# Altium integrated library NXP Semiconductors Automotive MOSFETs.IntLib: 540 symbols (part 2 of 16)
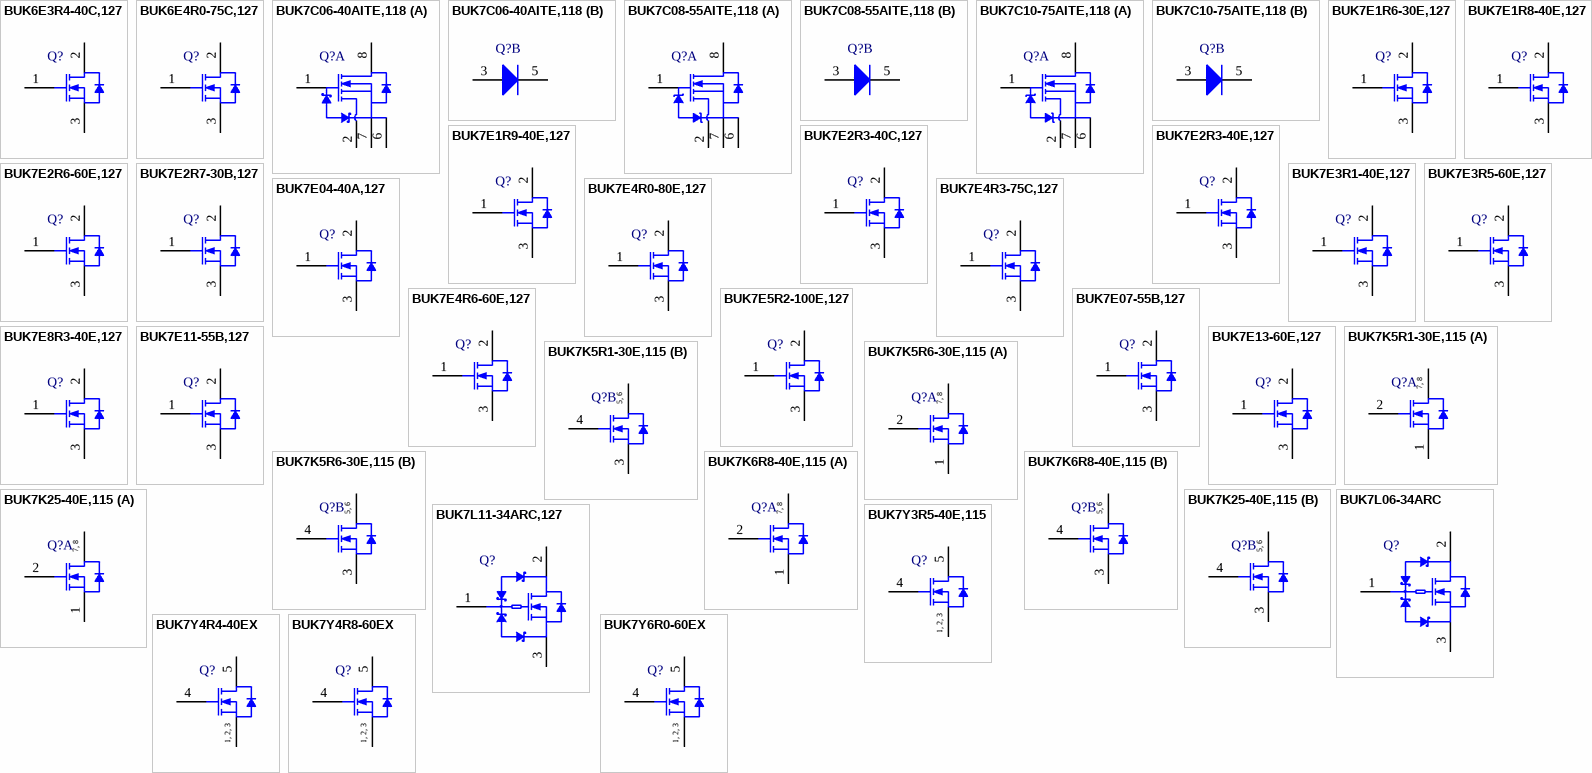
[diagram p15: symbols BUK6E3R4-40C,127 to BUK7Y6R0-60EX]

## BUK7C08-55AITE,118
designator Q?
N-Channel TrenchPLUS Standard Level FET, 55 V, 7-Pin SOT427, Tape and Reel; Manufacturer: NXP Semiconductors; PartNumber: BUK7C08-55AITE,118; Automotive Qualified: Y; Channel Type: N; IDM [max] (A): 522; Packing: Tape & Reel; Qr [typ] (nC): 200; VDS [max] (V): 55; VGSth [typ] (V): 3; DatasheetVersion: Rev. 02; PackageVersion: 12-10-16, 10/2012; PackageReference: SOT427; PackageDescription: 7-Pin Plastic Single-ended Surface Mounted Package, Body 10 x 9.6 mm, Pitch 1.27 mm; Supplier 1: Digi-Key; Supplier Part Number 1: BUK7C08-55AITE,118-ND; Supplier 2: Mouser; Supplier Part Number 2: 771-K7C08-55AITE118; Mounting Technology: Surface Mount; ComponentLink1Description: Manufacturer URL; ComponentLink1URL: http://www.nxp.com/; ComponentLink2Description: Datasheet; ComponentLink2URL: http://www.nxp.com/documents/data_sheet/BUK7C08-55AITE.pdf; ComponentLink3Description: Package Specification; ComponentLink3URL: http://www.nxp.com/documents/outline_drawing/sot427_po.pdf
footprint NXP-SOT427_N (D2-PAK, 7-Leads, Body 9.80x10.30mm, IPC Medium Density)
footprint NXP-SOT427_L (D2-PAK, 7-Leads, Body 9.80x10.30mm, IPC High Density)
footprint NXP-SOT427_M (D2-PAK, 7-Leads, Body 9.80x10.30mm, IPC Low Density)
part A pins: 1 G "gate", 2 ISENSE "sense current", 6 KS "Kelvin source", 7 S "source", 8 D "mounting base;connected to drain"
part B pins: 3 A "anode", 5 K "cathode"

## BUK7C10-75AITE,118
designator Q?
N-Channel TrenchPLUS Standard Level FET, 75 V, 7-Pin SOT427, Tape and Reel; Manufacturer: NXP Semiconductors; PartNumber: BUK7C10-75AITE,118; Automotive Qualified: Y; Channel Type: N; IDM [max] (A): 456; Packing: Tape & Reel; Qr [typ] (nC): 270; VDS [max] (V): 75; VGSth [typ] (V): 3; DatasheetVersion: Rev. 03; PackageVersion: 12-10-16, 10/2012; PackageReference: SOT427; PackageDescription: 7-Pin Plastic Single-ended Surface Mounted Package, Body 10 x 9.6 mm, Pitch 1.27 mm; Supplier 1: Digi-Key; Supplier Part Number 1: 568-9661-2-ND; Supplier 2: Digi-Key; Supplier Part Number 2: 568-9661-1-ND; Supplier 3: Digi-Key; Supplier Part Number 3: 568-9661-6-ND; Supplier 4: Mouser; Supplier Part Number 4: 771-K7C10-75AITE118; Mounting Technology: Surface Mount; ComponentLink1Description: Manufacturer URL; ComponentLink1URL: http://www.nxp.com/; ComponentLink2Description: Datasheet; ComponentLink2URL: http://www.nxp.com/documents/data_sheet/BUK7C10-75AITE.pdf; ComponentLink3Description: Package Specification; ComponentLink3URL: http://www.nxp.com/documents/outline_drawing/sot427_po.pdf
footprint NXP-SOT427_N (D2-PAK, 7-Leads, Body 9.80x10.30mm, IPC Medium Density)
footprint NXP-SOT427_L (D2-PAK, 7-Leads, Body 9.80x10.30mm, IPC High Density)
footprint NXP-SOT427_M (D2-PAK, 7-Leads, Body 9.80x10.30mm, IPC Low Density)
part A pins: 1 G "gate", 2 ISENSE "sense current", 6 KS "Kelvin source", 7 S "source", 8 D "mounting base;connected to drain"
part B pins: 3 A "anode", 5 K "cathode"

## BUK7E1R6-30E,127
designator Q?
N-Channel TrenchMOS Standard Level FET, 30 V, 120 A, 3-Pin SOT226, Rail; Manufacturer: NXP Semiconductors; PartNumber: BUK7E1R6-30E,127; Automotive Qualified: Y; Channel Type: N; ID [max] (A): 120; IDM [max] (A): 1408; Qr [typ] (nC): 93; VDS [max] (V): 30; VGSth [typ] (V): 3; PackageVersion: 09-08-25, 08/2009; PackageReference: SOT226; PackageDescription: 3-Pin Flange Mount, Vertical Straight Lead, Body 10 x 4.3 mm, Pitch 2.54 mm; Supplier 1: Digi-Key; Supplier Part Number 1: 568-9848-5-ND; Supplier 2: Mouser; Supplier Part Number 2: 771-BUK7E1R6-30E127; Packing: Rail; Mounting Technology: Through Hole; Code_JEDEC: TO-262; ComponentLink1Description: Manufacturer URL; ComponentLink1URL: http://www.nxp.com/; ComponentLink2Description: Datasheet; ComponentLink2URL: http://www.nxp.com/documents/data_sheet/BUK7E1R6-30E.pdf; ComponentLink3Description: Package Specification; ComponentLink3URL: http://www.nxp.com/documents/outline_drawing/sot226_po.pdf
footprint NXP-SOT226 (FM, 3-Leads, Body 10.3x4.5mm, Pitch 2.54mm)
pins: 1 G "gate", 2 D "drain", 3 S "source"

## BUK7E1R8-40E,127
designator Q?
N-Channel TrenchMOS Standard Level FET, 40 V, 120 A, 3-Pin SOT226, Rail; Manufacturer: NXP Semiconductors; PartNumber: BUK7E1R8-40E,127; Automotive Qualified: Y; Channel Type: N; ID [max] (A): 120; IDM [max] (A): 1278; Qr [typ] (nC): 94; VDS [max] (V): 40; VGSth [typ] (V): 3; PackageVersion: 09-08-25, 08/2009; PackageReference: SOT226; PackageDescription: 3-Pin Flange Mount, Vertical Straight Lead, Body 10 x 4.3 mm, Pitch 2.54 mm; Supplier 1: Digi-Key; Supplier Part Number 1: 568-9849-5-ND; Supplier 2: Mouser; Supplier Part Number 2: 771-BUK7E1R8-40E127; Packing: Rail; Mounting Technology: Through Hole; Code_JEDEC: TO-262; ComponentLink1Description: Manufacturer URL; ComponentLink1URL: http://www.nxp.com/; ComponentLink2Description: Datasheet; ComponentLink2URL: http://www.nxp.com/documents/data_sheet/BUK7E1R8-40E.pdf; ComponentLink3Description: Package Specification; ComponentLink3URL: http://www.nxp.com/documents/outline_drawing/sot226_po.pdf
footprint NXP-SOT226 (FM, 3-Leads, Body 10.3x4.5mm, Pitch 2.54mm)
pins: 1 G "gate", 2 D "drain", 3 S "source"

## BUK7E1R9-40E,127
designator Q?
N-Channel TrenchMOS Standard Level FET, 40 V, 120 A, 3-Pin SOT226, Rail; Manufacturer: NXP Semiconductors; PartNumber: BUK7E1R9-40E,127; Automotive Qualified: Y; Channel Type: N; ID [max] (A): 120; IDM [max] (A): 1198; Qr [typ] (nC): 62; VDS [max] (V): 40; VGSth [typ] (V): 3; PackageVersion: 09-08-25, 08/2009; PackageReference: SOT226; PackageDescription: 3-Pin Flange Mount, Vertical Straight Lead, Body 10 x 4.3 mm, Pitch 2.54 mm; Supplier 1: Digi-Key; Supplier Part Number 1: 568-10286-ND; Supplier 2: Mouser; Supplier Part Number 2: 771-BUK7E1R9-40E127; Packing: Rail; Mounting Technology: Through Hole; Code_JEDEC: TO-262; ComponentLink1Description: Manufacturer URL; ComponentLink1URL: http://www.nxp.com/; ComponentLink2Description: Datasheet; ComponentLink2URL: http://www.nxp.com/documents/data_sheet/BUK7E1R9-40E.pdf; ComponentLink3Description: Package Specification; ComponentLink3URL: http://www.nxp.com/documents/outline_drawing/sot226_po.pdf
footprint NXP-SOT226 (FM, 3-Leads, Body 10.3x4.5mm, Pitch 2.54mm)
pins: 1 G "gate", 2 D "drain", 3 S "source"

## BUK7E2R3-40C,127
designator Q?
N-Channel TrenchMOS Standard Level FET, 40 V, 3-Pin SOT226, Rail; Manufacturer: NXP Semiconductors; PartNumber: BUK7E2R3-40C,127; Automotive Qualified: Y; Channel Type: N; IDM [max] (A): 1104; Qr [typ] (nC): 57; VDS [max] (V): 40; VGSth [typ] (V): 3; DatasheetVersion: Rev. 03; PackageVersion: 09-08-25, 08/2009; PackageReference: SOT226; PackageDescription: 3-Pin Flange Mount, Vertical Straight Lead, Body 10 x 4.3 mm, Pitch 2.54 mm; Supplier 1: Digi-Key; Supplier Part Number 1: 568-6628-5-ND; Supplier 2: Mouser; Supplier Part Number 2: 771-BUK7E2R3-40C,127; Packing: Rail; Mounting Technology: Through Hole; Code_JEDEC: TO-262; ComponentLink1Description: Manufacturer URL; ComponentLink1URL: http://www.nxp.com/; ComponentLink2Description: Datasheet; ComponentLink2URL: http://www.nxp.com/documents/data_sheet/BUK7E2R3-40C.pdf; ComponentLink3Description: Package Specification; ComponentLink3URL: http://www.nxp.com/documents/outline_drawing/sot226_po.pdf
footprint NXP-SOT226 (FM, 3-Leads, Body 10.3x4.5mm, Pitch 2.54mm)
pins: 1 G "gate", 2 D "drain", 3 S "source"

## BUK7E2R3-40E,127
designator Q?
N-Channel TrenchMOS Standard Level FET, 40 V, 120 A, 3-Pin SOT226, Rail; Manufacturer: NXP Semiconductors; PartNumber: BUK7E2R3-40E,127; Automotive Qualified: Y; Channel Type: N; ID [max] (A): 120; IDM [max] (A): 1035; Qr [typ] (nC): 54; VDS [max] (V): 40; VGSth [typ] (V): 3; PackageVersion: 09-08-25, 08/2009; PackageReference: SOT226; PackageDescription: 3-Pin Flange Mount, Vertical Straight Lead, Body 10 x 4.3 mm, Pitch 2.54 mm; Supplier 1: Digi-Key; Supplier Part Number 1: 568-9850-5-ND; Supplier 2: Mouser; Supplier Part Number 2: 771-BUK7E2R3-40E127; Packing: Rail; Mounting Technology: Through Hole; Code_JEDEC: TO-262; ComponentLink1Description: Manufacturer URL; ComponentLink1URL: http://www.nxp.com/; ComponentLink2Description: Datasheet; ComponentLink2URL: http://www.nxp.com/documents/data_sheet/BUK7E2R3-40E.pdf; ComponentLink3Description: Package Specification; ComponentLink3URL: http://www.nxp.com/documents/outline_drawing/sot226_po.pdf
footprint NXP-SOT226 (FM, 3-Leads, Body 10.3x4.5mm, Pitch 2.54mm)
pins: 1 G "gate", 2 D "drain", 3 S "source"

## BUK7E2R6-60E,127
designator Q?
N-Channel TrenchMOS Standard Level FET, 60 V, 120 A, 3-Pin SOT226, Rail; Manufacturer: NXP Semiconductors; PartNumber: BUK7E2R6-60E,127; Automotive Qualified: Y; Channel Type: N; ID [max] (A): 120; IDM [max] (A): 995; Qr [typ] (nC): 89; VDS [max] (V): 60; VGSth [typ] (V): 3; PackageVersion: 09-08-25, 08/2009; PackageReference: SOT226; PackageDescription: 3-Pin Flange Mount, Vertical Straight Lead, Body 10 x 4.3 mm, Pitch 2.54 mm; Supplier 1: Digi-Key; Supplier Part Number 1: 568-9851-5-ND; Supplier 2: Mouser; Supplier Part Number 2: 771-BUK7E2R6-60E127; Packing: Rail; Mounting Technology: Through Hole; Code_JEDEC: TO-262; ComponentLink1Description: Manufacturer URL; ComponentLink1URL: http://www.nxp.com/; ComponentLink2Description: Datasheet; ComponentLink2URL: http://www.nxp.com/documents/data_sheet/BUK7E2R6-60E.pdf; ComponentLink3Description: Package Specification; ComponentLink3URL: http://www.nxp.com/documents/outline_drawing/sot226_po.pdf
footprint NXP-SOT226 (FM, 3-Leads, Body 10.3x4.5mm, Pitch 2.54mm)
pins: 1 G "gate", 2 D "drain", 3 S "source"

## BUK7E2R7-30B,127
designator Q?
N-Channel TrenchMOS Standard Level FET, 30 V, 3-Pin SOT226, Rail; Manufacturer: NXP Semiconductors; PartNumber: BUK7E2R7-30B,127; Automotive Qualified: Y; Channel Type: N; IDM [max] (A): 967; Qr [typ] (nC): 132; VDS [max] (V): 30; VGSth [typ] (V): 3; DatasheetVersion: Rev. 04; PackageVersion: 09-08-25, 08/2009; PackageReference: SOT226; PackageDescription: 3-Pin Flange Mount, Vertical Straight Lead, Body 10 x 4.3 mm, Pitch 2.54 mm; Supplier 1: Digi-Key; Supplier Part Number 1: 568-6629-5-ND; Supplier 2: Mouser; Supplier Part Number 2: 771-BUK7E2R7-30B127; Packing: Rail; Mounting Technology: Through Hole; Code_JEDEC: TO-262; ComponentLink1Description: Manufacturer URL; ComponentLink1URL: http://www.nxp.com/; ComponentLink2Description: Datasheet; ComponentLink2URL: http://www.nxp.com/documents/data_sheet/BUK7E2R7-30B.pdf; ComponentLink3Description: Package Specification; ComponentLink3URL: http://www.nxp.com/documents/outline_drawing/sot226_po.pdf
footprint NXP-SOT226 (FM, 3-Leads, Body 10.3x4.5mm, Pitch 2.54mm)
pins: 1 G "gate", 2 D "drain", 3 S "source"

## BUK7E3R1-40E,127
designator Q?
N-Channel TrenchMOS Standard Level FET, 40 V, 100 A, 3-Pin SOT226, Rail; Manufacturer: NXP Semiconductors; PartNumber: BUK7E3R1-40E,127; Automotive Qualified: Y; Channel Type: N; ID [max] (A): 100; IDM [max] (A): 798; Qr [typ] (nC): 44.6; VDS [max] (V): 40; VGSth [typ] (V): 3; PackageVersion: 09-08-25, 08/2009; PackageReference: SOT226; PackageDescription: 3-Pin Flange Mount, Vertical Straight Lead, Body 10 x 4.3 mm, Pitch 2.54 mm; Supplier 1: Digi-Key; Supplier Part Number 1: 568-9852-5-ND; Supplier 2: Mouser; Supplier Part Number 2: 771-BUK7E3R1-40E127; Packing: Rail; Mounting Technology: Through Hole; Code_JEDEC: TO-262; ComponentLink1Description: Manufacturer URL; ComponentLink1URL: http://www.nxp.com/; ComponentLink2Description: Datasheet; ComponentLink2URL: http://www.nxp.com/documents/data_sheet/BUK7E3R1-40E.pdf; ComponentLink3Description: Package Specification; ComponentLink3URL: http://www.nxp.com/documents/outline_drawing/sot226_po.pdf
footprint NXP-SOT226 (FM, 3-Leads, Body 10.3x4.5mm, Pitch 2.54mm)
pins: 1 G "gate", 2 D "drain", 3 S "source"

## BUK7E3R5-60E,127
designator Q?
N-Channel TrenchMOS Standard Level FET, 60 V, 120 A, 3-Pin SOT226, Rail; Manufacturer: NXP Semiconductors; PartNumber: BUK7E3R5-60E,127; Automotive Qualified: Y; Channel Type: N; ID [max] (A): 120; IDM [max] (A): 785; Qr [typ] (nC): 59.3; VDS [max] (V): 60; VGSth [typ] (V): 3; PackageVersion: 09-08-25, 08/2009; PackageReference: SOT226; PackageDescription: 3-Pin Flange Mount, Vertical Straight Lead, Body 10 x 4.3 mm, Pitch 2.54 mm; Supplier 1: Digi-Key; Supplier Part Number 1: 568-9853-5-ND; Supplier 2: Mouser; Supplier Part Number 2: 771-BUK7E3R5-60E127; Packing: Rail; Mounting Technology: Through Hole; Code_JEDEC: TO-262; ComponentLink1Description: Manufacturer URL; ComponentLink1URL: http://www.nxp.com/; ComponentLink2Description: Datasheet; ComponentLink2URL: http://www.nxp.com/documents/data_sheet/BUK7E3R5-60E.pdf; ComponentLink3Description: Package Specification; ComponentLink3URL: http://www.nxp.com/documents/outline_drawing/sot226_po.pdf
footprint NXP-SOT226 (FM, 3-Leads, Body 10.3x4.5mm, Pitch 2.54mm)
pins: 1 G "gate", 2 D "drain", 3 S "source"

## BUK7E04-40A,127
designator Q?
N-Channel TrenchMOS Standard Level FET, 40 V, 3-Pin SOT226, Rail; Manufacturer: NXP Semiconductors; PartNumber: BUK7E04-40A,127; Automotive Qualified: Y; Channel Type: N; IDM [max] (A): 794; Qr [typ] (nC): 224; VDS [max] (V): 40; VGSth [typ] (V): 3; DatasheetVersion: Rev. 03; PackageVersion: 09-08-25, 08/2009; PackageReference: SOT226; PackageDescription: 3-Pin Flange Mount, Vertical Straight Lead, Body 10 x 4.3 mm, Pitch 2.54 mm; Supplier 1: Digi-Key; Supplier Part Number 1: 568-9744-5-ND; Supplier 2: Mouser; Supplier Part Number 2: 771-BUK7E04-40A,127; Packing: Rail; Mounting Technology: Through Hole; Code_JEDEC: TO-262; ComponentLink1Description: Manufacturer URL; ComponentLink1URL: http://www.nxp.com/; ComponentLink2Description: Datasheet; ComponentLink2URL: http://www.nxp.com/documents/data_sheet/BUK7E04-40A.pdf; ComponentLink3Description: Package Specification; ComponentLink3URL: http://www.nxp.com/documents/outline_drawing/sot226_po.pdf
footprint NXP-SOT226 (FM, 3-Leads, Body 10.3x4.5mm, Pitch 2.54mm)
pins: 1 G "gate", 2 D "drain", 3 S "source"

## BUK7E4R0-80E,127
designator Q?
N-Channel TrenchMOS Standard Level FET, 80 V, 120 A, 3-Pin SOT226, Rail; Manufacturer: NXP Semiconductors; PartNumber: BUK7E4R0-80E,127; Automotive Qualified: Y; Channel Type: N; ID [max] (A): 120; IDM [max] (A): 758; Qr [typ] (nC): 121; VDS [max] (V): 80; VGSth [typ] (V): 3; PackageVersion: 09-08-25, 08/2009; PackageReference: SOT226; PackageDescription: 3-Pin Flange Mount, Vertical Straight Lead, Body 10 x 4.3 mm, Pitch 2.54 mm; Supplier 1: Digi-Key; Supplier Part Number 1: 568-9854-5-ND; Supplier 2: Mouser; Supplier Part Number 2: 771-BUK7E4R0-80E127; Packing: Rail; Mounting Technology: Through Hole; Code_JEDEC: TO-262; ComponentLink1Description: Manufacturer URL; ComponentLink1URL: http://www.nxp.com/; ComponentLink2Description: Datasheet; ComponentLink2URL: http://www.nxp.com/documents/data_sheet/BUK7E4R0-80E.pdf; ComponentLink3Description: Package Specification; ComponentLink3URL: http://www.nxp.com/documents/outline_drawing/sot226_po.pdf
footprint NXP-SOT226 (FM, 3-Leads, Body 10.3x4.5mm, Pitch 2.54mm)
pins: 1 G "gate", 2 D "drain", 3 S "source"

## BUK7E4R3-75C,127
designator Q?
N-Channel TrenchMOS Standard Level FET, 75 V, 100 A, 3-Pin SOT226, Rail; Manufacturer: NXP Semiconductors; PartNumber: BUK7E4R3-75C,127; Automotive Qualified: Y; Channel Type: N; IDM [max] (A): 769; Qr [typ] (nC): 155; VDS [max] (V): 75; VGSth [typ] (V): 3; DatasheetVersion: Rev. 02; PackageVersion: 09-08-25, 08/2009; PackageReference: SOT226; PackageDescription: 3-Pin Flange Mount, Vertical Straight Lead, Body 10 x 4.3 mm, Pitch 2.54 mm; Supplier 1: Digi-Key; Supplier Part Number 1: 568-6630-5-ND; Supplier 2: Mouser; Supplier Part Number 2: 771-BUK7E4R3-75C,127; Packing: Rail; Mounting Technology: Through Hole; Code_JEDEC: TO-262; ComponentLink1Description: Manufacturer URL; ComponentLink1URL: http://www.nxp.com/; ComponentLink2Description: Datasheet; ComponentLink2URL: http://www.nxp.com/documents/data_sheet/BUK7E4R3-75C.pdf; ComponentLink3Description: Package Specification; ComponentLink3URL: http://www.nxp.com/documents/outline_drawing/sot226_po.pdf
footprint NXP-SOT226 (FM, 3-Leads, Body 10.3x4.5mm, Pitch 2.54mm)
pins: 1 G "gate", 2 D "drain", 3 S "source"

## BUK7E4R6-60E,127
designator Q?
N-Channel TrenchMOS Standard Level FET, 60 V, 100 A, 3-Pin SOT226, Rail; Manufacturer: NXP Semiconductors; PartNumber: BUK7E4R6-60E,127; Automotive Qualified: Y; Channel Type: N; ID [max] (A): 100; IDM [max] (A): 613; Qr [typ] (nC): 49.6; VDS [max] (V): 60; VGSth [typ] (V): 3; PackageVersion: 09-08-25, 08/2009; PackageReference: SOT226; PackageDescription: 3-Pin Flange Mount, Vertical Straight Lead, Body 10 x 4.3 mm, Pitch 2.54 mm; Supplier 1: Digi-Key; Supplier Part Number 1: 568-9855-5-ND; Supplier 2: Mouser; Supplier Part Number 2: 771-BUK7E4R6-60E127; Packing: Rail; Mounting Technology: Through Hole; Code_JEDEC: TO-262; ComponentLink1Description: Manufacturer URL; ComponentLink1URL: http://www.nxp.com/; ComponentLink2Description: Datasheet; ComponentLink2URL: http://www.nxp.com/documents/data_sheet/BUK7E4R6-60E.pdf; ComponentLink3Description: Package Specification; ComponentLink3URL: http://www.nxp.com/documents/outline_drawing/sot226_po.pdf
footprint NXP-SOT226 (FM, 3-Leads, Body 10.3x4.5mm, Pitch 2.54mm)
pins: 1 G "gate", 2 D "drain", 3 S "source"

## BUK7E5R2-100E,127
designator Q?
N-Channel TrenchMOS Standard Level FET, 100 V, 120 A, 3-Pin SOT226, Rail; Manufacturer: NXP Semiconductors; PartNumber: BUK7E5R2-100E,127; Automotive Qualified: Y; Channel Type: N; ID [max] (A): 120; IDM [max] (A): 631; Qr [typ] (nC): 191; VDS [max] (V): 100; VGSth [typ] (V): 3; PackageVersion: 09-08-25, 08/2009; PackageReference: SOT226; PackageDescription: 3-Pin Flange Mount, Vertical Straight Lead, Body 10 x 4.3 mm, Pitch 2.54 mm; Supplier 1: Digi-Key; Supplier Part Number 1: 568-9856-5-ND; Supplier 2: Mouser; Supplier Part Number 2: 771-BUK7E5R2-100E127; Packing: Rail; Mounting Technology: Through Hole; Code_JEDEC: TO-262; ComponentLink1Description: Manufacturer URL; ComponentLink1URL: http://www.nxp.com/; ComponentLink2Description: Datasheet; ComponentLink2URL: http://www.nxp.com/documents/data_sheet/BUK7E5R2-100E.pdf; ComponentLink3Description: Package Specification; ComponentLink3URL: http://www.nxp.com/documents/outline_drawing/sot226_po.pdf
footprint NXP-SOT226 (FM, 3-Leads, Body 10.3x4.5mm, Pitch 2.54mm)
pins: 1 G "gate", 2 D "drain", 3 S "source"

## BUK7E07-55B,127
designator Q?
N-Channel TrenchMOS Standard Level FET, 55 V, 3-Pin SOT226, Rail; Manufacturer: NXP Semiconductors; PartNumber: BUK7E07-55B,127; Automotive Qualified: Y; Channel Type: N; IDM [max] (A): 478; Qr [typ] (nC): 60; VDS [max] (V): 55; VGSth [typ] (V): 3; DatasheetVersion: Rev. 01; PackageVersion: 09-08-25, 08/2009; PackageReference: SOT226; PackageDescription: 3-Pin Flange Mount, Vertical Straight Lead, Body 10 x 4.3 mm, Pitch 2.54 mm; Supplier 1: Digi-Key; Supplier Part Number 1: 568-5722-5-ND; Supplier 2: Mouser; Supplier Part Number 2: 771-BUK7E07-55B,127; Packing: Rail; Mounting Technology: Through Hole; Code_JEDEC: TO-262; ComponentLink1Description: Manufacturer URL; ComponentLink1URL: http://www.nxp.com/; ComponentLink2Description: Datasheet; ComponentLink2URL: http://www.nxp.com/documents/data_sheet/BUK7E07-55B.pdf; ComponentLink3Description: Package Specification; ComponentLink3URL: http://www.nxp.com/documents/outline_drawing/sot226_po.pdf
footprint NXP-SOT226 (FM, 3-Leads, Body 10.3x4.5mm, Pitch 2.54mm)
pins: 1 G "gate", 2 D "drain", 3 S "source"

## BUK7E8R3-40E,127
designator Q?
N-Channel TrenchMOS Standard Level FET, 40 V, 75 A, 3-Pin SOT226, Rail; Manufacturer: NXP Semiconductors; PartNumber: BUK7E8R3-40E,127; Automotive Qualified: Y; Channel Type: N; ID [max] (A): 75; IDM [max] (A): 331; Qr [typ] (nC): 10.7; VDS [max] (V): 40; VGSth [typ] (V): 3; PackageVersion: 09-08-25, 08/2009; PackageReference: SOT226; PackageDescription: 3-Pin Flange Mount, Vertical Straight Lead, Body 10 x 4.3 mm, Pitch 2.54 mm; Supplier 1: Digi-Key; Supplier Part Number 1: 568-9857-5-ND; Supplier 2: Mouser; Supplier Part Number 2: 771-BUK7E8R3-40E127; Packing: Rail; Mounting Technology: Through Hole; Code_JEDEC: TO-262; ComponentLink1Description: Manufacturer URL; ComponentLink1URL: http://www.nxp.com/; ComponentLink2Description: Datasheet; ComponentLink2URL: http://www.nxp.com/documents/data_sheet/BUK7E8R3-40E.pdf; ComponentLink3Description: Package Specification; ComponentLink3URL: http://www.nxp.com/documents/outline_drawing/sot226_po.pdf
footprint NXP-SOT226 (FM, 3-Leads, Body 10.3x4.5mm, Pitch 2.54mm)
pins: 1 G "gate", 2 D "drain", 3 S "source"

## BUK7E11-55B,127
designator Q?
N-Channel TrenchMOS Standard Level FET, 55 V, 3-Pin SOT226, Rail; Manufacturer: NXP Semiconductors; PartNumber: BUK7E11-55B,127; Automotive Qualified: Y; Channel Type: N; IDM [max] (A): 338; Qr [typ] (nC): 58; VDS [max] (V): 55; VGSth [typ] (V): 3; DatasheetVersion: Rev. 3; PackageVersion: 09-08-25, 08/2009; PackageReference: SOT226; PackageDescription: 3-Pin Flange Mount, Vertical Straight Lead, Body 10 x 4.3 mm, Pitch 2.54 mm; Supplier 1: Digi-Key; Supplier Part Number 1: 568-5723-5-ND; Supplier 2: Mouser; Supplier Part Number 2: 771-BUK7E11-55B127; Packing: Rail; Mounting Technology: Through Hole; Code_JEDEC: TO-262; ComponentLink1Description: Manufacturer URL; ComponentLink1URL: http://www.nxp.com/; ComponentLink2Description: Datasheet; ComponentLink2URL: http://www.nxp.com/documents/data_sheet/BUK7E11-55B.pdf; ComponentLink3Description: Package Specification; ComponentLink3URL: http://www.nxp.com/documents/outline_drawing/sot226_po.pdf
footprint NXP-SOT226 (FM, 3-Leads, Body 10.3x4.5mm, Pitch 2.54mm)
pins: 1 G "gate", 2 D "drain", 3 S "source"

## BUK7E13-60E,127
designator Q?
N-Channel TrenchMOS Standard Level FET, 60 V, 58 A, 3-Pin SOT226, Rail; Manufacturer: NXP Semiconductors; PartNumber: BUK7E13-60E,127; Automotive Qualified: Y; Channel Type: N; ID [max] (A): 58; IDM [max] (A): 234; Qr [typ] (nC): 18.1; VDS [max] (V): 60; VGSth [typ] (V): 3; PackageVersion: 09-08-25, 08/2009; PackageReference: SOT226; PackageDescription: 3-Pin Flange Mount, Vertical Straight Lead, Body 10 x 4.3 mm, Pitch 2.54 mm; Supplier 1: Digi-Key; Supplier Part Number 1: 568-9847-5-ND; Supplier 2: Mouser; Supplier Part Number 2: 771-BUK7E13-60E127; Packing: Rail; Mounting Technology: Through Hole; Code_JEDEC: TO-262; ComponentLink1Description: Manufacturer URL; ComponentLink1URL: http://www.nxp.com/; ComponentLink2Description: Datasheet; ComponentLink2URL: http://www.nxp.com/documents/data_sheet/BUK7E13-60E.pdf; ComponentLink3Description: Package Specification; ComponentLink3URL: http://www.nxp.com/documents/outline_drawing/sot226_po.pdf
footprint NXP-SOT226 (FM, 3-Leads, Body 10.3x4.5mm, Pitch 2.54mm)
pins: 1 G "gate", 2 D "drain", 3 S "source"

## BUK7K5R1-30E,115
designator Q?
Dual N-Channel Standard Level MOSFET, 30 V, 40 A, 8-Pin SOT1205, Reel; Manufacturer: NXP Semiconductors; PartNumber: BUK7K5R1-30E,115; Automotive Qualified: Y; Channel Type: N; ID [max] (A): 40; IDM [max] (A): 340; Qr [typ] (nC): 20.7; VDS [max] (V): 30; VGSth [typ] (V): 3; PackageVersion: 14-08-21, 08/2014; PackageReference: SOT1205; PackageDescription: 8-Pin Plastic Single-ended Surface Mounted Package, Body 5.125 x 4.575 mm, Pitch 1.27 mm; Supplier 1: Digi-Key; Supplier Part Number 1: 568-9896-2-ND; Supplier 2: Digi-Key; Supplier Part Number 2: 568-9896-1-ND; Supplier 3: Digi-Key; Supplier Part Number 3: 568-9896-6-ND; Supplier 4: Mouser; Supplier Part Number 4: 771-BUK7K5R1-30E115; Packing: Reel; Mounting Technology: Surface Mount; ComponentLink1Description: Manufacturer URL; ComponentLink1URL: http://www.nxp.com/; ComponentLink2Description: Datasheet; ComponentLink2URL: http://www.nxp.com/documents/data_sheet/BUK7K5R1-30E.pdf; ComponentLink3Description: Package Specification; ComponentLink3URL: http://www.nxp.com/documents/outline_drawing/sot1205_po.pdf
footprint NXP-SOT1205_N (DPAK, 8-Leads, Body 5.3x4.7mm, Pitch 1.27mm, IPC Medium Density)
footprint NXP-SOT1205_L (DPAK, 8-Leads, Body 5.3x4.7mm, Pitch 1.27mm, IPC High Density)
footprint NXP-SOT1205_M (DPAK, 8-Leads, Body 5.3x4.7mm, Pitch 1.27mm, IPC Low Density)
part A pins: 1 S1 "source1", 2 G1 "gate1", 7 D1 "drain1", 8 D1 "drain1"
part B pins: 3 S2 "source2", 4 G2 "gate2", 5 D2 "drain2", 6 D2 "drain2"
part A text: 7, 8
part B text: 5, 6

## BUK7K5R6-30E,115
designator Q?
Dual N-Channel Standard Level MOSFET, 30 V, 40 A, 8-Pin SOT1205, Reel; Manufacturer: NXP Semiconductors; PartNumber: BUK7K5R6-30E,115; Automotive Qualified: Y; Channel Type: N; ID [max] (A): 40; IDM [max] (A): 314; Qr [typ] (nC): 20.7; VDS [max] (V): 30; VGSth [typ] (V): 3; PackageVersion: 14-08-21, 08/2014; PackageReference: SOT1205; PackageDescription: 8-Pin Plastic Single-ended Surface Mounted Package, Body 5.125 x 4.575 mm, Pitch 1.27 mm; Supplier 1: Digi-Key; Supplier Part Number 1: 568-9897-2-ND; Supplier 2: Digi-Key; Supplier Part Number 2: 568-9897-1-ND; Supplier 3: Digi-Key; Supplier Part Number 3: 568-9897-6-ND; Supplier 4: Mouser; Supplier Part Number 4: 771-BUK7K5R6-30E115; Packing: Reel; Mounting Technology: Surface Mount; ComponentLink1Description: Manufacturer URL; ComponentLink1URL: http://www.nxp.com/; ComponentLink2Description: Datasheet; ComponentLink2URL: http://www.nxp.com/documents/data_sheet/BUK7K5R6-30E.pdf; ComponentLink3Description: Package Specification; ComponentLink3URL: http://www.nxp.com/documents/outline_drawing/sot1205_po.pdf
footprint NXP-SOT1205_N (DPAK, 8-Leads, Body 5.3x4.7mm, Pitch 1.27mm, IPC Medium Density)
footprint NXP-SOT1205_L (DPAK, 8-Leads, Body 5.3x4.7mm, Pitch 1.27mm, IPC High Density)
footprint NXP-SOT1205_M (DPAK, 8-Leads, Body 5.3x4.7mm, Pitch 1.27mm, IPC Low Density)
part A pins: 1 S1 "source1", 2 G1 "gate1", 7 D1 "drain1", 8 D1 "drain1"
part B pins: 3 S2 "source2", 4 G2 "gate2", 5 D2 "drain2", 6 D2 "drain2"
part A text: 7, 8
part B text: 5, 6

## BUK7K6R8-40E,115
designator Q?
Dual N-Channel Standard Level MOSFET, 40 V, 40 A, 8-Pin SOT1205, Reel; Manufacturer: NXP Semiconductors; PartNumber: BUK7K6R8-40E,115; Automotive Qualified: Y; Channel Type: N; ID [max] (A): 40; IDM [max] (A): 276; Qr [typ] (nC): 11.3; VGSth [typ] (V): 3; PackageVersion: 14-08-21, 08/2014; PackageReference: SOT1205; PackageDescription: 8-Pin Plastic Single-ended Surface Mounted Package, Body 5.125 x 4.575 mm, Pitch 1.27 mm; Supplier 1: Digi-Key; Supplier Part Number 1: 568-9898-2-ND; Supplier 2: Digi-Key; Supplier Part Number 2: 568-9898-1-ND; Supplier 3: Digi-Key; Supplier Part Number 3: 568-9898-6-ND; Supplier 4: Mouser; Supplier Part Number 4: 771-BUK7K6R8-40E115; Packing: Reel; VDS [max] (V): 40; Mounting Technology: Surface Mount; ComponentLink1Description: Manufacturer URL; ComponentLink1URL: http://www.nxp.com/; ComponentLink2Description: Datasheet; ComponentLink2URL: http://www.nxp.com/documents/data_sheet/BUK7K6R8-40E.pdf; ComponentLink3Description: Package Specification; ComponentLink3URL: http://www.nxp.com/documents/outline_drawing/sot1205_po.pdf
footprint NXP-SOT1205_N (DPAK, 8-Leads, Body 5.3x4.7mm, Pitch 1.27mm, IPC Medium Density)
footprint NXP-SOT1205_L (DPAK, 8-Leads, Body 5.3x4.7mm, Pitch 1.27mm, IPC High Density)
footprint NXP-SOT1205_M (DPAK, 8-Leads, Body 5.3x4.7mm, Pitch 1.27mm, IPC Low Density)
part A pins: 1 S1 "source1", 2 G1 "gate1", 7 D1 "drain1", 8 D1 "drain1"
part B pins: 3 S2 "source2", 4 G2 "gate2", 5 D2 "drain2", 6 D2 "drain2"
part A text: 7, 8
part B text: 5, 6

## BUK7K25-40E,115
designator Q?
Dual N-Channel TrenchMOS Standard Level FET, 40 V, 27 A, 8-Pin SOT1205, Reel; Manufacturer: NXP Semiconductors; PartNumber: BUK7K25-40E,115; Automotive Qualified: Y; Channel Type: N; ID [max] (A): 27; IDM [max] (A): 107; Qr [typ] (nC): 6.7; VDS [max] (V): 40; VGSth [typ] (V): 3; PackageVersion: 14-08-21, 08/2014; PackageReference: SOT1205; PackageDescription: 8-Pin Plastic Single-ended Surface Mounted Package, Body 5.125 x 4.575 mm, Pitch 1.27 mm; Supplier 1: Digi-Key; Supplier Part Number 1: 568-9895-2-ND; Supplier 2: Digi-Key; Supplier Part Number 2: 568-9895-1-ND; Supplier 3: Digi-Key; Supplier Part Number 3: 568-9895-6-ND; Supplier 4: Mouser; Supplier Part Number 4: 771-BUK7K25-40E115; Packing: Reel; Mounting Technology: Surface Mount; ComponentLink1Description: Manufacturer URL; ComponentLink1URL: http://www.nxp.com/; ComponentLink2Description: Datasheet; ComponentLink2URL: http://www.nxp.com/documents/data_sheet/BUK7K25-40E.pdf; ComponentLink3Description: Package Specification; ComponentLink3URL: http://www.nxp.com/documents/outline_drawing/sot1205_po.pdf
footprint NXP-SOT1205_N (DPAK, 8-Leads, Body 5.3x4.7mm, Pitch 1.27mm, IPC Medium Density)
footprint NXP-SOT1205_L (DPAK, 8-Leads, Body 5.3x4.7mm, Pitch 1.27mm, IPC High Density)
footprint NXP-SOT1205_M (DPAK, 8-Leads, Body 5.3x4.7mm, Pitch 1.27mm, IPC Low Density)
part A pins: 1 S1 "source1", 2 G1 "gate1", 7 D1 "drain1", 8 D1 "drain1"
part B pins: 3 S2 "source2", 4 G2 "gate2", 5 D2 "drain2", 6 D2 "drain2"
part A text: 7, 8
part B text: 5, 6

## BUK7L06-34ARC
designator Q?
N-Channel TrenchPLUS Standard Level FET, 34 V, 3-Pin SOT78C; Manufacturer: NXP Semiconductors; PartNumber: BUK7L06-34ARC; Automotive Qualified: Y; Channel Type: N; IDM [max] (A): 590; Qr [typ] (nC): 44; VDS [max] (V): 34; VGSth [typ] (V): 3; DatasheetVersion: Rev. 05; PackageVersion: 12-11-28, 11/2012; PackageReference: SOT78C; PackageDescription: 3-Pin Flange Mount, Vertical Straight Lead, Body 10.2 x 4.445 mm, Pitch 2.54 mm; Supplier 1: Mouser; Supplier Part Number 1: 771-BUK7L06-34ARC; Mounting Technology: Through Hole; ComponentLink1Description: Manufacturer URL; ComponentLink1URL: http://www.nxp.com/; ComponentLink2Description: Datasheet; ComponentLink2URL: http://www.nxp.com/documents/data_sheet/BUK7L06-34ARC.pdf; ComponentLink3Description: Package Specification; ComponentLink3URL: http://www.nxp.com/documents/outline_drawing/sot078c_po.pdf
footprint NXP-SOT78C (FM, 3-Leads, Body 10.4x4.6mm, Pitch 2.54mm)
pins: 1 G, 2 D, 3 S

## BUK7L11-34ARC,127
designator Q?
N-Channel TrenchPLUS Standard Level FET, 34 V, 3-Pin SOT78C, Rail; Manufacturer: NXP Semiconductors; PartNumber: BUK7L11-34ARC,127; Automotive Qualified: Y; Channel Type: N; IDM [max] (A): 358; Qr [typ] (nC): 28; VDS [max] (V): 34; VGSth [typ] (V): 3; DatasheetVersion: Rev. 05; PackageVersion: 12-11-28, 11/2012; PackageReference: SOT78C; PackageDescription: 3-Pin Flange Mount, Vertical Straight Lead, Body 10.2 x 4.445 mm, Pitch 2.54 mm; Supplier 1: Digi-Key; Supplier Part Number 1: BUK7L11-34ARC,127-ND; Supplier 2: Mouser; Supplier Part Number 2: N/A; Packing: Rail; Mounting Technology: Through Hole; ComponentLink1Description: Manufacturer URL; ComponentLink1URL: http://www.nxp.com/; ComponentLink2Description: Datasheet; ComponentLink2URL: http://www.nxp.com/documents/data_sheet/BUK7L11-34ARC.pdf; ComponentLink3Description: Package Specification; ComponentLink3URL: http://www.nxp.com/documents/outline_drawing/sot078c_po.pdf
footprint NXP-SOT78C (FM, 3-Leads, Body 10.4x4.6mm, Pitch 2.54mm)
pins: 1 G, 2 D, 3 S

## BUK7Y3R5-40E,115
designator Q?
N-Channel Standard Level MOSFET, 40 V, 100 A, 5-Pin SOT669, Tape and Reel; Manufacturer: NXP Semiconductors; PartNumber: BUK7Y3R5-40E,115; Automotive Qualified: Y; Channel Type: N; ID [max] (A): 100; IDM [max] (A): 622; Packing: Tape & Reel; Qr [typ] (nC): 25.4; VDS [max] (V): 40; VGSth [typ] (V): 3; PackageVersion: 13-02-27, 02/2013; PackageReference: SOT669; PackageDescription: 4-Pin Plastic Single-ended Surface Mounted Package, Body 4.9 x 3.95 mm, Pitch 1.27 mm; Supplier 1: Digi-Key; Supplier Part Number 1: 568-11418-2-ND; Supplier 2: Digi-Key; Supplier Part Number 2: 568-11418-1-ND; Supplier 3: Digi-Key; Supplier Part Number 3: 568-11418-6-ND; Supplier 4: Newark; Supplier Part Number 4: 45W7223; Supplier 5: Mouser; Supplier Part Number 5: 771-BUK7Y3R5-40E115; Mounting Technology: Surface Mount; Code_JEDEC: MO-235; ComponentLink1Description: Manufacturer URL; ComponentLink1URL: http://www.nxp.com/; ComponentLink2Description: Datasheet; ComponentLink2URL: http://www.nxp.com/documents/data_sheet/BUK7Y3R5-40E.pdf; ComponentLink3Description: Package Specification; ComponentLink3URL: http://www.nxp.com/documents/outline_drawing/sot669_po.pdf
footprint NXP-SOT669_N (DPAK, 4-Leads, Body 5x4.1mm, Pitch 1.27mm, IPC Medium Density)
footprint NXP-SOT669_L (DPAK, 4-Leads, Body 5x4.1mm, Pitch 1.27mm, IPC High Density)
footprint NXP-SOT669_M (DPAK, 4-Leads, Body 5x4.1mm, Pitch 1.27mm, IPC Low Density)
pins: 1 S "source", 2 S "source", 3 S "source", 4 G "gate", 5 D "mounting base; connected to drain"
text: 1, 2, 3

## BUK7Y4R4-40EX
designator Q?
N-Channel Standard Level MOSFET, 40 V, 100 A, 5-Pin SOT669, Tape and Reel; Manufacturer: NXP Semiconductors; PartNumber: BUK7Y4R4-40EX; Automotive Qualified: Y; Channel Type: N; ID [max] (A): 100; IDM [max] (A): 521; Packing: Tape & Reel; Qr [typ] (nC): 18; VDS [max] (V): 40; VGSth [typ] (V): 3; PackageVersion: 13-02-27, 02/2013; PackageReference: SOT669; PackageDescription: 4-Pin Plastic Single-ended Surface Mounted Package, Body 4.9 x 3.95 mm, Pitch 1.27 mm; Supplier 1: Digi-Key; Supplier Part Number 1: 568-10268-2-ND; Supplier 2: Digi-Key; Supplier Part Number 2: 568-10268-1-ND; Supplier 3: Digi-Key; Supplier Part Number 3: 568-10268-6-ND; Supplier 4: Mouser; Supplier Part Number 4: 771-BUK7Y4R4-40EX; Mounting Technology: Surface Mount; Code_JEDEC: MO-235; ComponentLink1Description: Manufacturer URL; ComponentLink1URL: http://www.nxp.com/; ComponentLink2Description: Datasheet; ComponentLink2URL: http://www.nxp.com/documents/data_sheet/BUK7Y4R4-40E.pdf; ComponentLink3Description: Package Specification; ComponentLink3URL: http://www.nxp.com/documents/outline_drawing/sot669_po.pdf
footprint NXP-SOT669_N (DPAK, 4-Leads, Body 5x4.1mm, Pitch 1.27mm, IPC Medium Density)
footprint NXP-SOT669_L (DPAK, 4-Leads, Body 5x4.1mm, Pitch 1.27mm, IPC High Density)
footprint NXP-SOT669_M (DPAK, 4-Leads, Body 5x4.1mm, Pitch 1.27mm, IPC Low Density)
pins: 1 S "source", 2 S "source", 3 S "source", 4 G "gate", 5 D "mounting base; connected to drain"
text: 1, 2, 3

## BUK7Y4R8-60EX
designator Q?
N-Channel Standard Level MOSFET, 60 V, 100 A, 5-Pin SOT669, Tape and Reel; Manufacturer: NXP Semiconductors; PartNumber: BUK7Y4R8-60EX; Automotive Qualified: Y; Channel Type: N; ID [max] (A): 100; IDM [max] (A): 595; Packing: Tape & Reel; Qr [typ] (nC): 38.9; VDS [max] (V): 60; VGSth [typ] (V): 3; PackageVersion: 13-02-27, 02/2013; PackageReference: SOT669; PackageDescription: 4-Pin Plastic Single-ended Surface Mounted Package, Body 4.9 x 3.95 mm, Pitch 1.27 mm; Supplier 1: Digi-Key; Supplier Part Number 1: 568-10967-2-ND; Supplier 2: Digi-Key; Supplier Part Number 2: 568-10967-1-ND; Supplier 3: Digi-Key; Supplier Part Number 3: 568-10967-6-ND; Supplier 4: Mouser; Supplier Part Number 4: 771-BUK7Y4R8-60EX; Mounting Technology: Surface Mount; Code_JEDEC: MO-235; ComponentLink1Description: Manufacturer URL; ComponentLink1URL: http://www.nxp.com/; ComponentLink2Description: Datasheet; ComponentLink2URL: http://www.nxp.com/documents/data_sheet/BUK7Y4R8-60E.pdf; ComponentLink3Description: Package Specification; ComponentLink3URL: http://www.nxp.com/documents/outline_drawing/sot669_po.pdf
footprint NXP-SOT669_N (DPAK, 4-Leads, Body 5x4.1mm, Pitch 1.27mm, IPC Medium Density)
footprint NXP-SOT669_L (DPAK, 4-Leads, Body 5x4.1mm, Pitch 1.27mm, IPC High Density)
footprint NXP-SOT669_M (DPAK, 4-Leads, Body 5x4.1mm, Pitch 1.27mm, IPC Low Density)
pins: 1 S "source", 2 S "source", 3 S "source", 4 G "gate", 5 D "mounting base; connected to drain"
text: 1, 2, 3

## BUK7Y6R0-60EX
designator Q?
N-Channel Standard Level MOSFET, 60 V, 100 A, 5-Pin SOT669, Tape and Reel; Manufacturer: NXP Semiconductors; PartNumber: BUK7Y6R0-60EX; Automotive Qualified: Y; Channel Type: N; ID [max] (A): 100; IDM [max] (A): 482; Packing: Tape & Reel; Qr [typ] (nC): 29; VDS [max] (V): 60; VGSth [typ] (V): 3; PackageVersion: 13-02-27, 02/2013; PackageReference: SOT669; PackageDescription: 4-Pin Plastic Single-ended Surface Mounted Package, Body 4.9 x 3.95 mm, Pitch 1.27 mm; Supplier 1: Digi-Key; Supplier Part Number 1: 568-10271-2-ND; Supplier 2: Digi-Key; Supplier Part Number 2: 568-10271-1-ND; Supplier 3: Digi-Key; Supplier Part Number 3: 568-10271-6-ND; Supplier 4: Mouser; Supplier Part Number 4: 771-BUK7Y6R0-60EX; Mounting Technology: Surface Mount; Code_JEDEC: MO-235; ComponentLink1Description: Manufacturer URL; ComponentLink1URL: http://www.nxp.com/; ComponentLink2Description: Datasheet; ComponentLink2URL: http://www.nxp.com/documents/data_sheet/BUK7Y6R0-60E.pdf; ComponentLink3Description: Package Specification; ComponentLink3URL: http://www.nxp.com/documents/outline_drawing/sot669_po.pdf
footprint NXP-SOT669_N (DPAK, 4-Leads, Body 5x4.1mm, Pitch 1.27mm, IPC Medium Density)
footprint NXP-SOT669_L (DPAK, 4-Leads, Body 5x4.1mm, Pitch 1.27mm, IPC High Density)
footprint NXP-SOT669_M (DPAK, 4-Leads, Body 5x4.1mm, Pitch 1.27mm, IPC Low Density)
pins: 1 S "source", 2 S "source", 3 S "source", 4 G "gate", 5 D "mounting base; connected to drain"
text: 1, 2, 3

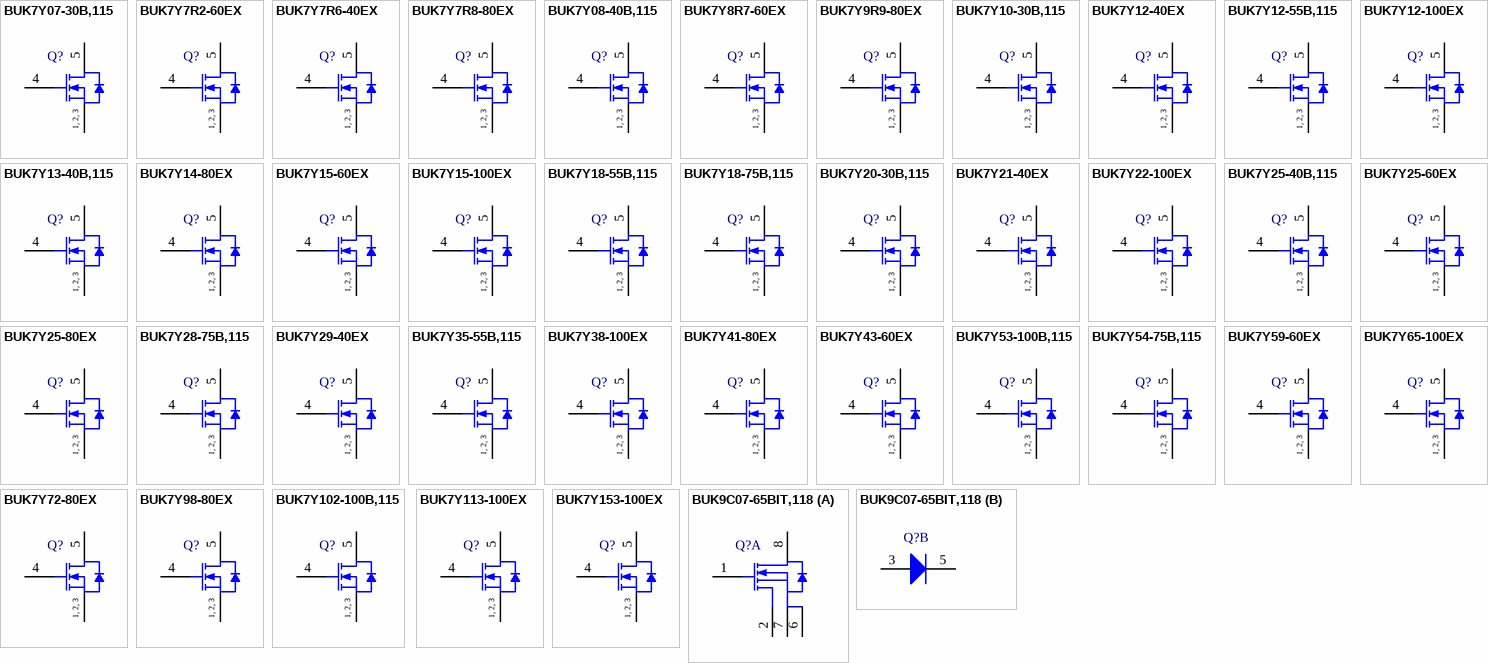
[diagram p2: symbols BUK7Y07-30B,115 to BUK9C07-65BIT,118]

## BUK7Y07-30B,115
designator Q?
N-Channel TrenchMOS Standard Level FET, 30 V, 75 A, 5-Pin SOT669, Tape and Reel; Manufacturer: NXP Semiconductors; PartNumber: BUK7Y07-30B,115; Automotive Qualified: Y; Channel Type: N; ID [max] (A): 75; IDM [max] (A): 356; Packing: Tape & Reel; Qr [typ] (nC): 53; VDS [max] (V): 30; VGSth [typ] (V): 3; DatasheetVersion: Rev. 03; PackageVersion: 13-02-27, 02/2013; PackageReference: SOT669; PackageDescription: 4-Pin Plastic Single-ended Surface Mounted Package, Body 4.9 x 3.95 mm, Pitch 1.27 mm; Supplier 1: Digi-Key; Supplier Part Number 1: 568-5510-2-ND; Supplier 2: Digi-Key; Supplier Part Number 2: 568-5510-1-ND; Supplier 3: Digi-Key; Supplier Part Number 3: 568-5510-6-ND; Supplier 4: Mouser; Supplier Part Number 4: 771-BUK7Y07-30B115; Mounting Technology: Surface Mount; Code_JEDEC: MO-235; ComponentLink1Description: Manufacturer URL; ComponentLink1URL: http://www.nxp.com/; ComponentLink2Description: Datasheet; ComponentLink2URL: http://www.nxp.com/documents/data_sheet/BUK7Y07-30B.pdf; ComponentLink3Description: Package Specification; ComponentLink3URL: http://www.nxp.com/documents/outline_drawing/sot669_po.pdf
footprint NXP-SOT669_N (DPAK, 4-Leads, Body 5x4.1mm, Pitch 1.27mm, IPC Medium Density)
footprint NXP-SOT669_L (DPAK, 4-Leads, Body 5x4.1mm, Pitch 1.27mm, IPC High Density)
footprint NXP-SOT669_M (DPAK, 4-Leads, Body 5x4.1mm, Pitch 1.27mm, IPC Low Density)
pins: 1 S "source", 2 S "source", 3 S "source", 4 G "gate", 5 D "mounting base; connected to drain"
text: 1, 2, 3

## BUK7Y7R2-60EX
designator Q?
N-Channel Standard Level MOSFET, 60 V, 100 A, 5-Pin SOT669, Tape and Reel; Manufacturer: NXP Semiconductors; PartNumber: BUK7Y7R2-60EX; Automotive Qualified: Y; Channel Type: N; ID [max] (A): 100; IDM [max] (A): 407; Packing: Tape & Reel; Qr [typ] (nC): 25.6; VDS [max] (V): 60; VGSth [typ] (V): 3; PackageVersion: 13-02-27, 02/2013; PackageReference: SOT669; PackageDescription: 4-Pin Plastic Single-ended Surface Mounted Package, Body 4.9 x 3.95 mm, Pitch 1.27 mm; Supplier 1: Digi-Key; Supplier Part Number 1: 568-11419-2-ND; Supplier 2: Digi-Key; Supplier Part Number 2: 568-11419-1-ND; Supplier 3: Digi-Key; Supplier Part Number 3: 568-11419-6-ND; Supplier 4: Mouser; Supplier Part Number 4: 771-BUK7Y7R260EX; Mounting Technology: Surface Mount; Code_JEDEC: MO-235; ComponentLink1Description: Manufacturer URL; ComponentLink1URL: http://www.nxp.com/; ComponentLink2Description: Datasheet; ComponentLink2URL: http://www.nxp.com/documents/data_sheet/BUK7Y7R2-60E.pdf; ComponentLink3Description: Package Specification; ComponentLink3URL: http://www.nxp.com/documents/outline_drawing/sot669_po.pdf
footprint NXP-SOT669_N (DPAK, 4-Leads, Body 5x4.1mm, Pitch 1.27mm, IPC Medium Density)
footprint NXP-SOT669_L (DPAK, 4-Leads, Body 5x4.1mm, Pitch 1.27mm, IPC High Density)
footprint NXP-SOT669_M (DPAK, 4-Leads, Body 5x4.1mm, Pitch 1.27mm, IPC Low Density)
pins: 1 S "source", 2 S "source", 3 S "source", 4 G "gate", 5 D "mounting base; connected to drain"
text: 1, 2, 3

## BUK7Y7R6-40EX
designator Q?
N-Channel Standard Level MOSFET, 40 V, 79 A, 5-Pin SOT669, Tape and Reel; Manufacturer: NXP Semiconductors; PartNumber: BUK7Y7R6-40EX; Automotive Qualified: Y; Channel Type: N; ID [max] (A): 79; IDM [max] (A): 317; Packing: Tape & Reel; Qr [typ] (nC): 9; VDS [max] (V): 40; VGSth [typ] (V): 3; PackageVersion: 13-02-27, 02/2013; PackageReference: SOT669; PackageDescription: 4-Pin Plastic Single-ended Surface Mounted Package, Body 4.9 x 3.95 mm, Pitch 1.27 mm; Supplier 1: Digi-Key; Supplier Part Number 1: 568-10272-2-ND; Supplier 2: Digi-Key; Supplier Part Number 2: 568-10272-1-ND; Supplier 3: Digi-Key; Supplier Part Number 3: 568-10272-6-ND; Supplier 4: Newark; Supplier Part Number 4: 55W6027; Supplier 5: Mouser; Supplier Part Number 5: 771-BUK7Y7R6-40EX; Mounting Technology: Surface Mount; Code_JEDEC: MO-235; ComponentLink1Description: Manufacturer URL; ComponentLink1URL: http://www.nxp.com/; ComponentLink2Description: Datasheet; ComponentLink2URL: http://www.nxp.com/documents/data_sheet/BUK7Y7R6-40E.pdf; ComponentLink3Description: Package Specification; ComponentLink3URL: http://www.nxp.com/documents/outline_drawing/sot669_po.pdf
footprint NXP-SOT669_N (DPAK, 4-Leads, Body 5x4.1mm, Pitch 1.27mm, IPC Medium Density)
footprint NXP-SOT669_L (DPAK, 4-Leads, Body 5x4.1mm, Pitch 1.27mm, IPC High Density)
footprint NXP-SOT669_M (DPAK, 4-Leads, Body 5x4.1mm, Pitch 1.27mm, IPC Low Density)
pins: 1 S "source", 2 S "source", 3 S "source", 4 G "gate", 5 D "mounting base; connected to drain"
text: 1, 2, 3

## BUK7Y7R8-80EX
designator Q?
N-Channel Standard Level MOSFET, 80 V, 100 A, 5-Pin SOT669, Tape and Reel; Manufacturer: NXP Semiconductors; PartNumber: BUK7Y7R8-80EX; Automotive Qualified: Y; Channel Type: N; ID [max] (A): 100; IDM [max] (A): 441; Packing: Tape & Reel; Qr [typ] (nC): 56.3; VDS [max] (V): 80; VGSth [typ] (V): 3; PackageVersion: 13-02-27, 02/2013; PackageReference: SOT669; PackageDescription: 4-Pin Plastic Single-ended Surface Mounted Package, Body 4.9 x 3.95 mm, Pitch 1.27 mm; Supplier 1: Digi-Key; Supplier Part Number 1: 568-10968-2-ND; Supplier 2: Digi-Key; Supplier Part Number 2: 568-10968-1-ND; Supplier 3: Digi-Key; Supplier Part Number 3: 568-10968-6-ND; Supplier 4: Mouser; Supplier Part Number 4: 771-BUK7Y7R8-80EX; Mounting Technology: Surface Mount; Code_JEDEC: MO-235; ComponentLink1Description: Manufacturer URL; ComponentLink1URL: http://www.nxp.com/; ComponentLink2Description: Datasheet; ComponentLink2URL: http://www.nxp.com/documents/data_sheet/BUK7Y7R8-80E.pdf; ComponentLink3Description: Package Specification; ComponentLink3URL: http://www.nxp.com/documents/outline_drawing/sot669_po.pdf
footprint NXP-SOT669_N (DPAK, 4-Leads, Body 5x4.1mm, Pitch 1.27mm, IPC Medium Density)
footprint NXP-SOT669_L (DPAK, 4-Leads, Body 5x4.1mm, Pitch 1.27mm, IPC High Density)
footprint NXP-SOT669_M (DPAK, 4-Leads, Body 5x4.1mm, Pitch 1.27mm, IPC Low Density)
pins: 1 S "source", 2 S "source", 3 S "source", 4 G "gate", 5 D "mounting base; connected to drain"
text: 1, 2, 3

## BUK7Y08-40B,115
designator Q?
N-Channel TrenchMOS Standard Level FET, 40 V, 75 A, 5-Pin SOT669, Tape and Reel; Manufacturer: NXP Semiconductors; PartNumber: BUK7Y08-40B,115; Automotive Qualified: Y; Channel Type: N; ID [max] (A): 75; IDM [max] (A): 332; Packing: Tape & Reel; Qr [typ] (nC): 69.2; VDS [max] (V): 40; VGSth [typ] (V): 3; DatasheetVersion: Rev. 03; PackageVersion: 13-02-27, 02/2013; PackageReference: SOT669; PackageDescription: 4-Pin Plastic Single-ended Surface Mounted Package, Body 4.9 x 3.95 mm, Pitch 1.27 mm; Supplier 1: Digi-Key; Supplier Part Number 1: 568-5511-2-ND; Supplier 2: Digi-Key; Supplier Part Number 2: 568-5511-1-ND; Supplier 3: Digi-Key; Supplier Part Number 3: 568-5511-6-ND; Supplier 4: Mouser; Supplier Part Number 4: 771-BUK7Y08-40B,115; Mounting Technology: Surface Mount; Code_JEDEC: MO-235; ComponentLink1Description: Manufacturer URL; ComponentLink1URL: http://www.nxp.com/; ComponentLink2Description: Datasheet; ComponentLink2URL: http://www.nxp.com/documents/data_sheet/BUK7Y08-40B.pdf; ComponentLink3Description: Package Specification; ComponentLink3URL: http://www.nxp.com/documents/outline_drawing/sot669_po.pdf
footprint NXP-SOT669_N (DPAK, 4-Leads, Body 5x4.1mm, Pitch 1.27mm, IPC Medium Density)
footprint NXP-SOT669_L (DPAK, 4-Leads, Body 5x4.1mm, Pitch 1.27mm, IPC High Density)
footprint NXP-SOT669_M (DPAK, 4-Leads, Body 5x4.1mm, Pitch 1.27mm, IPC Low Density)
pins: 1 S "source", 2 S "source", 3 S "source", 4 G "gate", 5 D "mounting base; connected to drain"
text: 1, 2, 3

## BUK7Y8R7-60EX
designator Q?
N-Channel Standard Level MOSFET, 60 V, 87 A, 5-Pin SOT669, Tape and Reel; Manufacturer: NXP Semiconductors; PartNumber: BUK7Y8R7-60EX; Automotive Qualified: Y; Channel Type: N; ID [max] (A): 87; IDM [max] (A): 347; Packing: Tape & Reel; Qr [typ] (nC): 23; VDS [max] (V): 60; VGSth [typ] (V): 3; PackageVersion: 13-02-27, 02/2013; PackageReference: SOT669; PackageDescription: 4-Pin Plastic Single-ended Surface Mounted Package, Body 4.9 x 3.95 mm, Pitch 1.27 mm; Supplier 1: Digi-Key; Supplier Part Number 1: 568-11420-2-ND; Supplier 2: Digi-Key; Supplier Part Number 2: 568-11420-1-ND; Supplier 3: Digi-Key; Supplier Part Number 3: 568-11420-6-ND; Supplier 4: Mouser; Supplier Part Number 4: 771-BUK7Y8R7-60EX; Mounting Technology: Surface Mount; Code_JEDEC: MO-235; ComponentLink1Description: Manufacturer URL; ComponentLink1URL: http://www.nxp.com/; ComponentLink2Description: Datasheet; ComponentLink2URL: http://www.nxp.com/documents/data_sheet/BUK7Y8R7-60E.pdf; ComponentLink3Description: Package Specification; ComponentLink3URL: http://www.nxp.com/documents/outline_drawing/sot669_po.pdf
footprint NXP-SOT669_N (DPAK, 4-Leads, Body 5x4.1mm, Pitch 1.27mm, IPC Medium Density)
footprint NXP-SOT669_L (DPAK, 4-Leads, Body 5x4.1mm, Pitch 1.27mm, IPC High Density)
footprint NXP-SOT669_M (DPAK, 4-Leads, Body 5x4.1mm, Pitch 1.27mm, IPC Low Density)
pins: 1 S "source", 2 S "source", 3 S "source", 4 G "gate", 5 D "mounting base; connected to drain"
text: 1, 2, 3

## BUK7Y9R9-80EX
designator Q?
N-Channel Standard Level MOSFET, 80 V, 89 A, 5-Pin SOT669, Tape and Reel; Manufacturer: NXP Semiconductors; PartNumber: BUK7Y9R9-80EX; Automotive Qualified: Y; Channel Type: N; ID [max] (A): 89; IDM [max] (A): 354; Packing: Tape & Reel; Qr [typ] (nC): 52; VDS [max] (V): 80; VGSth [typ] (V): 3; PackageVersion: 13-02-27, 02/2013; PackageReference: SOT669; PackageDescription: 4-Pin Plastic Single-ended Surface Mounted Package, Body 4.9 x 3.95 mm, Pitch 1.27 mm; Supplier 1: Digi-Key; Supplier Part Number 1: 568-10969-2-ND; Supplier 2: Digi-Key; Supplier Part Number 2: 568-10969-1-ND; Supplier 3: Digi-Key; Supplier Part Number 3: 568-10969-6-ND; Supplier 4: Mouser; Supplier Part Number 4: 771-BUK7Y9R9-80EX; Mounting Technology: Surface Mount; Code_JEDEC: MO-235; ComponentLink1Description: Manufacturer URL; ComponentLink1URL: http://www.nxp.com/; ComponentLink2Description: Datasheet; ComponentLink2URL: http://www.nxp.com/documents/data_sheet/BUK7Y9R9-80E.pdf; ComponentLink3Description: Package Specification; ComponentLink3URL: http://www.nxp.com/documents/outline_drawing/sot669_po.pdf
footprint NXP-SOT669_N (DPAK, 4-Leads, Body 5x4.1mm, Pitch 1.27mm, IPC Medium Density)
footprint NXP-SOT669_L (DPAK, 4-Leads, Body 5x4.1mm, Pitch 1.27mm, IPC High Density)
footprint NXP-SOT669_M (DPAK, 4-Leads, Body 5x4.1mm, Pitch 1.27mm, IPC Low Density)
pins: 1 S "source", 2 S "source", 3 S "source", 4 G "gate", 5 D "mounting base; connected to drain"
text: 1, 2, 3

## BUK7Y10-30B,115
designator Q?
N-Channel TrenchMOS Standard Level FET, 30 V, 67 A, 5-Pin SOT669, Tape and Reel; Manufacturer: NXP Semiconductors; PartNumber: BUK7Y10-30B,115; Automotive Qualified: Y; Channel Type: N; ID [max] (A): 67; IDM [max] (A): 268; Packing: Tape & Reel; Qr [typ] (nC): 38; VDS [max] (V): 30; VGSth [typ] (V): 3; DatasheetVersion: Rev. 03; PackageVersion: 13-02-27, 02/2013; PackageReference: SOT669; PackageDescription: 4-Pin Plastic Single-ended Surface Mounted Package, Body 4.9 x 3.95 mm, Pitch 1.27 mm; Supplier 1: Digi-Key; Supplier Part Number 1: 568-5512-2-ND; Supplier 2: Digi-Key; Supplier Part Number 2: 568-5512-1-ND; Supplier 3: Digi-Key; Supplier Part Number 3: 568-5512-6-ND; Supplier 4: Mouser; Supplier Part Number 4: 771-BUK7Y10-30B115; Mounting Technology: Surface Mount; Code_JEDEC: MO-235; ComponentLink1Description: Manufacturer URL; ComponentLink1URL: http://www.nxp.com/; ComponentLink2Description: Datasheet; ComponentLink2URL: http://www.nxp.com/documents/data_sheet/BUK7Y10-30B.pdf; ComponentLink3Description: Package Specification; ComponentLink3URL: http://www.nxp.com/documents/outline_drawing/sot669_po.pdf
footprint NXP-SOT669_N (DPAK, 4-Leads, Body 5x4.1mm, Pitch 1.27mm, IPC Medium Density)
footprint NXP-SOT669_L (DPAK, 4-Leads, Body 5x4.1mm, Pitch 1.27mm, IPC High Density)
footprint NXP-SOT669_M (DPAK, 4-Leads, Body 5x4.1mm, Pitch 1.27mm, IPC Low Density)
pins: 1 S "source", 2 S "source", 3 S "source", 4 G "gate", 5 D "mounting base; connected to drain"
text: 1, 2, 3